# Altium footprint library 0900PC15J0013_M.PcbLib: 1 footprints
Each footprint in its own frame and in the unit in brackets; x right, y up, seen from the top. Pads: shape width x height; smd on the part's side, far side on the other; paste and mask are expansions set on the pad; w line width, h text height; cw(c..) or ccw(c..) is an arc to the next point about the centre after c.
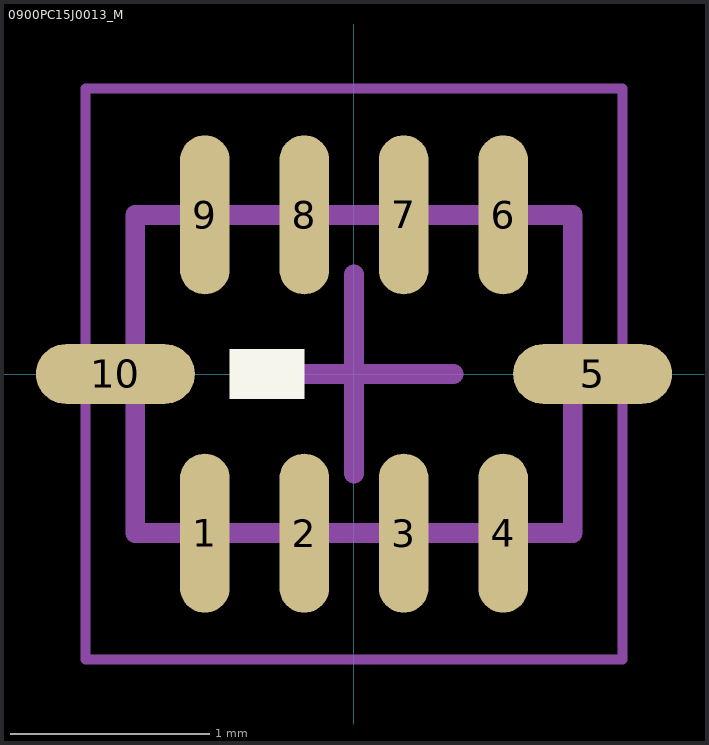
[diagram p0: the footprint, top view; thin cyan lines are the x and y axes]

## 0900PC15J0013_M [mm] "Chip Array, Flat, 10-Leads, Pitch 0,50mm,  Body 2,00x1,25mm,  IPC Medium Density"
height 1
pads (10):
  oval 0.25x0.8 smd: 1(-0.75,-0.8) 2(-0.25,-0.8) 3(0.25,-0.8) 4(0.75,-0.8) 6(0.75,0.8) 7(0.25,0.8) 8(-0.25,0.8) 9(-0.75,0.8)
  oval 0.8x0.3 smd: 5(1.2,0) 10(-1.2,0)
Top Overlay:
  region: -0.25,-0.125 -0.25,0.125 -0.625,0.125 -0.625,-0.125
Mechanical 13:
  lines w0.1: -1.1,-0.8 -1.1,0.8 1.1,0.8 1.1,-0.8 -1.1,-0.8
Mechanical 15:
  lines w0.05: -1.35,-1.435 -1.35,1.435 1.35,1.435 1.35,-1.435 -1.35,-1.435
  lines w0.1: -0.5,0 0.5,0 ; 0,-0.5 0,0.5
Mechanical 17:
  text "'.Designator'" at -1.397,-0.381 h0.51
Mechanical 19:
  text "'.Comment'" at -1.397,-0.381 h0.51
3D body "0900pc15j0013.stp": height 1.01, standoff 0, extent -1.001,-0.626 1.001,0.626